# Altium integrated library WE-TDC SMD Shielded Coupled Inductor.IntLib: 26 symbols
Pins are listed as number, name and electrical type; pins without a type are passive.

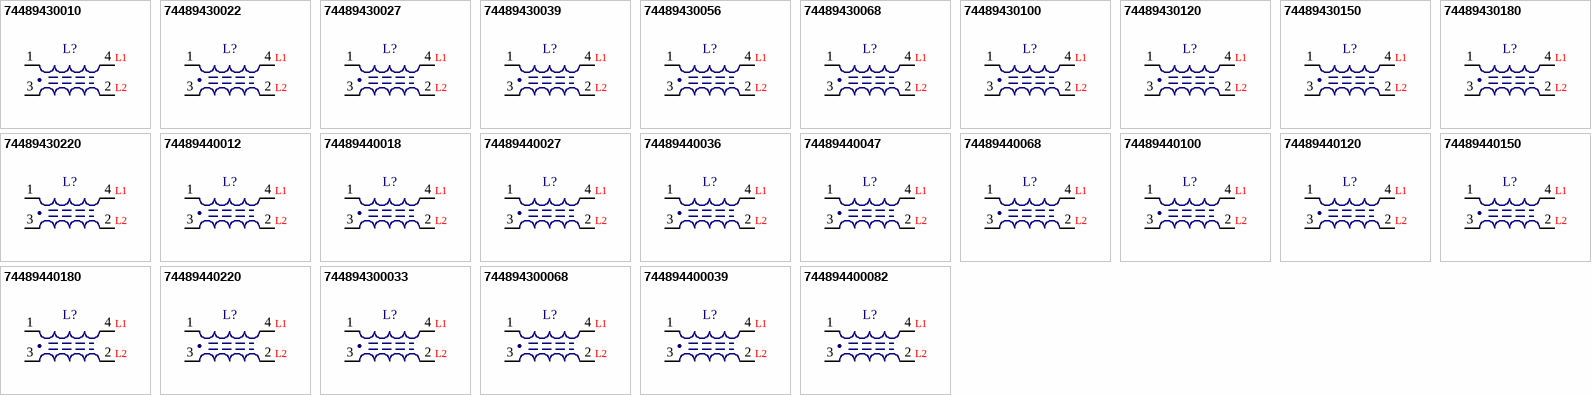
[diagram p0: symbols 74489430010 to 744894400082]

## 74489430010
designator L?
SMD Shielded Coupled Inductor WE-TDC, L=1.0 µH; PartNumber: 74489430010; Inductance: 1.0 µH; PackageReference: WE-TDC 8018; ComponentLink1Description: Manufacturer URL; ComponentLink1URL: http://www.we-online.com; ComponentLink2Description: Datasheet; ComponentLink2URL: http://katalog.we-online.de/pbs/datasheet/74489430010.pdf
footprint WE-TDC 8018 (SMD Inductor, 4-Leads, Body 8.0x8.0mm)
pins: 1, 2, 3, 4
text: L1; L2

## 74489430022
designator L?
SMD Shielded Coupled Inductor WE-TDC, L=2.2 µH; PartNumber: 74489430022; Inductance: 2.2 µH; PackageReference: WE-TDC 8018; ComponentLink1Description: Manufacturer URL; ComponentLink1URL: http://www.we-online.com; ComponentLink2Description: Datasheet; ComponentLink2URL: http://katalog.we-online.de/pbs/datasheet/74489430022.pdf
footprint WE-TDC 8018 (SMD Inductor, 4-Leads, Body 8.0x8.0mm)
pins: 1, 2, 3, 4
text: L1; L2

## 74489430027
designator L?
SMD Shielded Coupled Inductor WE-TDC, L=2.7 µH; PartNumber: 74489430027; Inductance: 2.7 µH; PackageReference: WE-TDC 8018; ComponentLink1Description: Manufacturer URL; ComponentLink1URL: http://www.we-online.com; ComponentLink2Description: Datasheet; ComponentLink2URL: http://katalog.we-online.de/pbs/datasheet/74489430027.pdf
footprint WE-TDC 8018 (SMD Inductor, 4-Leads, Body 8.0x8.0mm)
pins: 1, 2, 3, 4
text: L1; L2

## 74489430039
designator L?
SMD Shielded Coupled Inductor WE-TDC, L=3.9 µH; PartNumber: 74489430039; Inductance: 3.9 µH; PackageReference: WE-TDC 8018; ComponentLink1Description: Manufacturer URL; ComponentLink1URL: http://www.we-online.com; ComponentLink2Description: Datasheet; ComponentLink2URL: http://katalog.we-online.de/pbs/datasheet/74489430039.pdf
footprint WE-TDC 8018 (SMD Inductor, 4-Leads, Body 8.0x8.0mm)
pins: 1, 2, 3, 4
text: L1; L2

## 74489430056
designator L?
SMD Shielded Coupled Inductor WE-TDC, L=5.6 µH; PartNumber: 74489430056; Inductance: 5.6 µH; PackageReference: WE-TDC 8018; ComponentLink1Description: Manufacturer URL; ComponentLink1URL: http://www.we-online.com; ComponentLink2Description: Datasheet; ComponentLink2URL: http://katalog.we-online.de/pbs/datasheet/74489430056.pdf
footprint WE-TDC 8018 (SMD Inductor, 4-Leads, Body 8.0x8.0mm)
pins: 1, 2, 3, 4
text: L1; L2

## 74489430068
designator L?
SMD Shielded Coupled Inductor WE-TDC, L=6.8 µH; PartNumber: 74489430068; Inductance: 6.8 µH; PackageReference: WE-TDC 8018; ComponentLink1Description: Manufacturer URL; ComponentLink1URL: http://www.we-online.com; ComponentLink2Description: Datasheet; ComponentLink2URL: http://katalog.we-online.de/pbs/datasheet/74489430068.pdf
footprint WE-TDC 8018 (SMD Inductor, 4-Leads, Body 8.0x8.0mm)
pins: 1, 2, 3, 4
text: L1; L2

## 74489430100
designator L?
SMD Shielded Coupled Inductor WE-TDC, L=10 µH; PartNumber: 74489430100; Inductance: 10 µH; PackageReference: WE-TDC 8018; ComponentLink1Description: Manufacturer URL; ComponentLink1URL: http://www.we-online.com; ComponentLink2Description: Datasheet; ComponentLink2URL: http://katalog.we-online.de/pbs/datasheet/74489430100.pdf
footprint WE-TDC 8018 (SMD Inductor, 4-Leads, Body 8.0x8.0mm)
pins: 1, 2, 3, 4
text: L1; L2

## 74489430120
designator L?
SMD Shielded Coupled Inductor WE-TDC, L=12.0 µH; PartNumber: 74489430120; Inductance: 12.0 µH; PackageReference: WE-TDC 8018; ComponentLink1Description: Manufacturer URL; ComponentLink1URL: http://www.we-online.com; ComponentLink2Description: Datasheet; ComponentLink2URL: http://katalog.we-online.de/pbs/datasheet/74489430120.pdf
footprint WE-TDC 8018 (SMD Inductor, 4-Leads, Body 8.0x8.0mm)
pins: 1, 2, 3, 4
text: L1; L2

## 74489430150
designator L?
SMD Shielded Coupled Inductor WE-TDC, L=15.0 µH; PartNumber: 74489430150; Inductance: 15.0 µH; PackageReference: WE-TDC 8018; ComponentLink1Description: Manufacturer URL; ComponentLink1URL: http://www.we-online.com; ComponentLink2Description: Datasheet; ComponentLink2URL: http://katalog.we-online.de/pbs/datasheet/74489430150.pdf
footprint WE-TDC 8018 (SMD Inductor, 4-Leads, Body 8.0x8.0mm)
pins: 1, 2, 3, 4
text: L1; L2

## 74489430180
designator L?
SMD Shielded Coupled Inductor WE-TDC, L=18.0 µH; PartNumber: 74489430180; Inductance: 18.0 µH; PackageReference: WE-TDC 8018; ComponentLink1Description: Manufacturer URL; ComponentLink1URL: http://www.we-online.com; ComponentLink2Description: Datasheet; ComponentLink2URL: http://katalog.we-online.de/pbs/datasheet/74489430180.pdf
footprint WE-TDC 8018 (SMD Inductor, 4-Leads, Body 8.0x8.0mm)
pins: 1, 2, 3, 4
text: L1; L2

## 74489430220
designator L?
SMD Shielded Coupled Inductor WE-TDC, L=22.0 µH; PartNumber: 74489430220; Inductance: 22.0 µH; PackageReference: WE-TDC 8018; ComponentLink1Description: Manufacturer URL; ComponentLink1URL: http://www.we-online.com; ComponentLink2Description: Datasheet; ComponentLink2URL: http://katalog.we-online.de/pbs/datasheet/74489430220.pdf
footprint WE-TDC 8018 (SMD Inductor, 4-Leads, Body 8.0x8.0mm)
pins: 1, 2, 3, 4
text: L1; L2

## 74489440012
designator L?
SMD Shielded Coupled Inductor WE-TDC, L=1.2 µH; PartNumber: 74489440012; Inductance: 1.2 µH; PackageReference: WE-TDC 8038; ComponentLink1Description: Manufacturer URL; ComponentLink1URL: http://www.we-online.com; ComponentLink2Description: Datasheet; ComponentLink2URL: http://katalog.we-online.de/pbs/datasheet/74489440012.pdf
footprint WE-TDC 8038 (SMD Inductor, 4-Leads, Body 8.0x8.0mm)
pins: 1, 2, 3, 4
text: L1; L2

## 74489440018
designator L?
SMD Shielded Coupled Inductor WE-TDC, L=1.8 µH; PartNumber: 74489440018; Inductance: 1.8 µH; PackageReference: WE-TDC 8038; ComponentLink1Description: Manufacturer URL; ComponentLink1URL: http://www.we-online.com; ComponentLink2Description: Datasheet; ComponentLink2URL: http://katalog.we-online.de/pbs/datasheet/74489440018.pdf
footprint WE-TDC 8038 (SMD Inductor, 4-Leads, Body 8.0x8.0mm)
pins: 1, 2, 3, 4
text: L1; L2

## 74489440027
designator L?
SMD Shielded Coupled Inductor WE-TDC, L=2.7 µH; PartNumber: 74489440027; Inductance: 2.7 µH; PackageReference: WE-TDC 8038; ComponentLink1Description: Manufacturer URL; ComponentLink1URL: http://www.we-online.com; ComponentLink2Description: Datasheet; ComponentLink2URL: http://katalog.we-online.de/pbs/datasheet/74489440027.pdf
footprint WE-TDC 8038 (SMD Inductor, 4-Leads, Body 8.0x8.0mm)
pins: 1, 2, 3, 4
text: L1; L2

## 74489440036
designator L?
SMD Shielded Coupled Inductor WE-TDC, L=3.6 µH; PartNumber: 74489440036; Inductance: 3.6 µH; PackageReference: WE-TDC 8038; ComponentLink1Description: Manufacturer URL; ComponentLink1URL: http://www.we-online.com; ComponentLink2Description: Datasheet; ComponentLink2URL: http://katalog.we-online.de/pbs/datasheet/74489440036.pdf
footprint WE-TDC 8038 (SMD Inductor, 4-Leads, Body 8.0x8.0mm)
pins: 1, 2, 3, 4
text: L1; L2

## 74489440047
designator L?
SMD Shielded Coupled Inductor WE-TDC, L=4.7 µH; PartNumber: 74489440047; Inductance: 4.7 µH; PackageReference: WE-TDC 8038; ComponentLink1Description: Manufacturer URL; ComponentLink1URL: http://www.we-online.com; ComponentLink2Description: Datasheet; ComponentLink2URL: http://katalog.we-online.de/pbs/datasheet/74489440047.pdf
footprint WE-TDC 8038 (SMD Inductor, 4-Leads, Body 8.0x8.0mm)
pins: 1, 2, 3, 4
text: L1; L2

## 74489440068
designator L?
SMD Shielded Coupled Inductor WE-TDC, L=6.8 µH; PartNumber: 74489440068; Inductance: 6.8 µH; PackageReference: WE-TDC 8038; ComponentLink1Description: Manufacturer URL; ComponentLink1URL: http://www.we-online.com; ComponentLink2Description: Datasheet; ComponentLink2URL: http://katalog.we-online.de/pbs/datasheet/74489440068.pdf
footprint WE-TDC 8038 (SMD Inductor, 4-Leads, Body 8.0x8.0mm)
pins: 1, 2, 3, 4
text: L1; L2

## 74489440100
designator L?
SMD Shielded Coupled Inductor WE-TDC, L=10.0 µH; PartNumber: 74489440100; Inductance: 10.0 µH; PackageReference: WE-TDC 8038; ComponentLink1Description: Manufacturer URL; ComponentLink1URL: http://www.we-online.com; ComponentLink2Description: Datasheet; ComponentLink2URL: http://katalog.we-online.de/pbs/datasheet/74489440100.pdf
footprint WE-TDC 8038 (SMD Inductor, 4-Leads, Body 8.0x8.0mm)
pins: 1, 2, 3, 4
text: L1; L2

## 74489440120
designator L?
SMD Shielded Coupled Inductor WE-TDC, L=12.0 µH; PartNumber: 74489440120; Inductance: 12.0 µH; PackageReference: WE-TDC 8038; ComponentLink1Description: Manufacturer URL; ComponentLink1URL: http://www.we-online.com; ComponentLink2Description: Datasheet; ComponentLink2URL: http://katalog.we-online.de/pbs/datasheet/74489440120.pdf
footprint WE-TDC 8038 (SMD Inductor, 4-Leads, Body 8.0x8.0mm)
pins: 1, 2, 3, 4
text: L1; L2

## 74489440150
designator L?
SMD Shielded Coupled Inductor WE-TDC, L=15.0 µH; PartNumber: 74489440150; Inductance: 15.0 µH; PackageReference: WE-TDC 8038; ComponentLink1Description: Manufacturer URL; ComponentLink1URL: http://www.we-online.com; ComponentLink2Description: Datasheet; ComponentLink2URL: http://katalog.we-online.de/pbs/datasheet/74489440150.pdf
footprint WE-TDC 8038 (SMD Inductor, 4-Leads, Body 8.0x8.0mm)
pins: 1, 2, 3, 4
text: L1; L2

## 74489440180
designator L?
SMD Shielded Coupled Inductor WE-TDC, L=18.0 µH; PartNumber: 74489440180; Inductance: 18.0 µH; PackageReference: WE-TDC 8038; ComponentLink1Description: Manufacturer URL; ComponentLink1URL: http://www.we-online.com; ComponentLink2Description: Datasheet; ComponentLink2URL: http://katalog.we-online.de/pbs/datasheet/74489440180.pdf
footprint WE-TDC 8038 (SMD Inductor, 4-Leads, Body 8.0x8.0mm)
pins: 1, 2, 3, 4
text: L1; L2

## 74489440220
designator L?
SMD Shielded Coupled Inductor WE-TDC, L=22.0 µH; PartNumber: 74489440220; Inductance: 22.0 µH; PackageReference: WE-TDC 8038; ComponentLink1Description: Manufacturer URL; ComponentLink1URL: http://www.we-online.com; ComponentLink2Description: Datasheet; ComponentLink2URL: http://katalog.we-online.de/pbs/datasheet/74489440220.pdf
footprint WE-TDC 8038 (SMD Inductor, 4-Leads, Body 8.0x8.0mm)
pins: 1, 2, 3, 4
text: L1; L2

## 744894300033
designator L?
SMD Shielded Coupled Inductor WE-TDC, L=0.33 µH; PartNumber: 744894300033; Inductance: 0.33 µH; PackageReference: WE-TDC 8018; ComponentLink1Description: Manufacturer URL; ComponentLink1URL: http://www.we-online.com; ComponentLink2Description: Datasheet; ComponentLink2URL: http://katalog.we-online.de/pbs/datasheet/744894300033.pdf
footprint WE-TDC 8018 (SMD Inductor, 4-Leads, Body 8.0x8.0mm)
pins: 1, 2, 3, 4
text: L1; L2

## 744894300068
designator L?
SMD Shielded Coupled Inductor WE-TDC, L=0.68 µH; PartNumber: 744894300068; Inductance: 0.68 µH; PackageReference: WE-TDC 8018; ComponentLink1Description: Manufacturer URL; ComponentLink1URL: http://www.we-online.com; ComponentLink2Description: Datasheet; ComponentLink2URL: http://katalog.we-online.de/pbs/datasheet/744894300068.pdf
footprint WE-TDC 8018 (SMD Inductor, 4-Leads, Body 8.0x8.0mm)
pins: 1, 2, 3, 4
text: L1; L2

## 744894400039
designator L?
SMD Shielded Coupled Inductor WE-TDC, L=0.39 µH; PartNumber: 744894400039; Inductance: 0.39 µH; PackageReference: WE-TDC 8038; ComponentLink1Description: Manufacturer URL; ComponentLink1URL: http://www.we-online.com; ComponentLink2Description: Datasheet; ComponentLink2URL: http://katalog.we-online.de/pbs/datasheet/744894400039.pdf
footprint WE-TDC 8038 (SMD Inductor, 4-Leads, Body 8.0x8.0mm)
pins: 1, 2, 3, 4
text: L1; L2

## 744894400082
designator L?
SMD Shielded Coupled Inductor WE-TDC, L=0.82 µH; PartNumber: 744894400082; Inductance: 0.82 µH; PackageReference: WE-TDC 8038; ComponentLink1Description: Manufacturer URL; ComponentLink1URL: http://www.we-online.com; ComponentLink2Description: Datasheet; ComponentLink2URL: http://katalog.we-online.de/pbs/datasheet/744894400082.pdf
footprint WE-TDC 8038 (SMD Inductor, 4-Leads, Body 8.0x8.0mm)
pins: 1, 2, 3, 4
text: L1; L2